# EAGLE library part DRV8833 (library biomimetic)
TI DRV8833 1.5A Dual H-Bridge Motor Driver IC Digi-Key P/N: 296-29513-6-ND
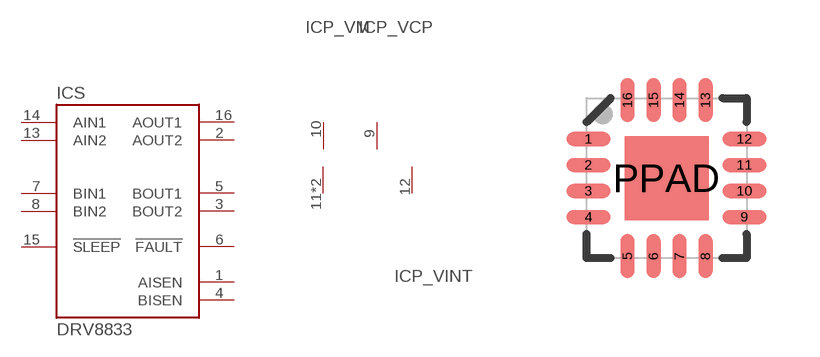
[diagram p6: symbol with the pads of S-PWQFN-N16; footprint S-PWQFN-N16]

Designator prefix IC; gates S=DRV8833 P_VM=V+- P_VCP=V+ P_VINT=V-

## DRV8833RTY  [S-PWQFN-N16]
1  S:AISEN
2  S:AOUT2
3  S:BOUT2
4  S:BISEN
5  S:BOUT1
6  S:!FAULT
7  S:BIN1
8  S:BIN2
9  P_VCP:V+  pwr
10  P_VM:V+  pwr
11  P_VM:V-  pwr
12  P_VINT:V-  pwr
13  S:AIN2
14  S:AIN1
15  S:!SLEEP
16  S:AOUT1
PPAD  P_VM:V-  pwr

## Footprint S-PWQFN-N16 (pad centres in mm)
smd 1.1 x 0.35: 1 -1.95,0.975; 2 -1.95,0.325; 3 -1.95,-0.325; 4 -1.95,-0.975; 9 1.95,-0.975; 10 1.95,-0.325; 11 1.95,0.325; 12 1.95,0.975
smd 0.35 x 1.1: 5 -0.975,-1.95; 6 -0.325,-1.95; 7 0.325,-1.95; 8 0.975,-1.95; 13 0.975,1.95; 14 0.325,1.95; 15 -0.325,1.95; 16 -0.975,1.95
smd 2.1 x 2.1: PPAD 0,0